# Altium schematic symbol library TH Mechanical.SchLib: 8 symbols
Pins are listed as number, name and electrical type; pins without a type are passive.

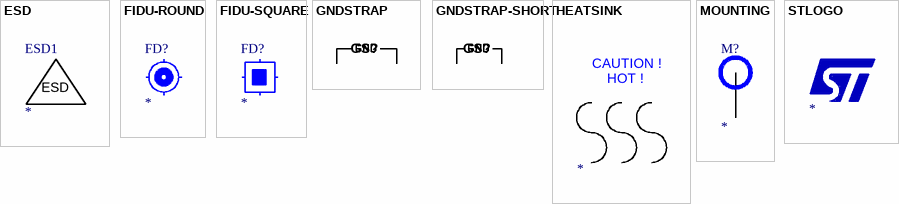
[diagram p0: symbols ESD to STLOGO]

## ESD
designator ESD1
ESD LOGO
footprint ESDSILK

## FIDU-ROUND
designator FD?
ROUND FIDUCIAL
footprint FIDU-ROUND

## FIDU-SQUARE
designator FD?
SQUARE FIDUCIAL
footprint FIDU-SQUARE

## GNDSTRAP
designator GS?, comment GND  (value not drawn)
GROUND CONNECTION BRIDGE; Manufacturer 1: Sharon Long Precision Industries; Manufacturer Part Number 1: Bend-It-Yourself; Reel: TH; Supplier 1: Sharon Long Industries; Supplier Part Number 1: Sharon Long Industries
footprint GNDSTRAP
pins: 1 GND, 2 GND

## GNDSTRAP-SHORT
designator GS?, comment GND  (value not drawn)
GROUND CONNECTION BRIDGE; Manufacturer: Sharon Long Precision Industries; Manufacturer Part Number: Bend-It-Yourself
footprint GNDSTRAP-S
pins: 1 GND, 2 GND

## HEATSINK
designator ?
text: CAUTION !; HOT !

## MOUNTING
designator M?
MOUNTING HOLE - NON INSTALLABLE
footprint MOUNTING
pins: 1, 2, 3, 4, 5, 6, 7

## STLOGO
designator ?
footprint STLOGO-SILVER
footprint STLOGO-MINI-SILVER